# Altium schematic symbol library Schlib1.SchLib: 3 symbols
Pins are listed as number, name and electrical type; pins without a type are passive.

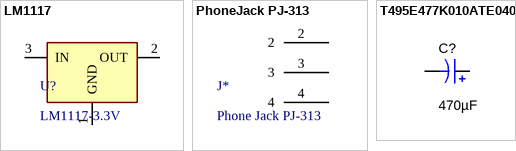
[diagram p0: symbols LM1117 to T495E477K010ATE040]

## LM1117
designator U?, comment LM1117-3.3V
800mA Low-Dropout Linear Regulator; Creator: Nguyen Ba Bien; Website: http://group3i.net
footprint LM1117-SOP
footprint SOT223-4N (SOT223, 4-Leads, Body 6.5x3.5mm, Pitch 2.3mm, Lead Span 7mm, IPC Medium Density)
pins: 1 GND, 2 OUT, 3 IN

## PhoneJack PJ-313
designator J*, comment Phone Jack PJ-313
pins: 2, 3, 4

## T495E477K010ATE040
designator C?  ValueDisplayed: 470µF  (hidden comment: T495E477K010ATE040)
CAP, TANT, 470uF, 10V, +/-10%, 0.04 ohm, 7260-38 SMD; Manufacturer: Kemet; Polarized: Y; CompType: Capacitor; U/M: EA; Cap_F: 0.00047; Tolerance_%: 10; ESR_Ohm: 0.04; IRMS_A: 2.012; TaMin_C: -55; TaMax_C: 125; Cap_Case: E; SymbolVersion: 2008-07-09; Value: 470uF; PartNumber: T495E477K010ATE040; PackageReference: 7260-38; RoHS: Y; Value1: 0.04 ohm; VDC_V: 10; Value2: 10V; MountType: SMT; Technology: TA; Series: T495; Published: 2008-06-19; Publisher: Texas Instruments; LatestRevisionDate: 2012-08-28; LatestRevisionNote: Changed Publisher; ComponentLink1Description: Datasheet link; ComponentLink1URL: http://www.kemet.com/kemet/web/homepage/kechome.nsf/file/T495%20Series/$file/F3102_T495.pdf; Alternate PartNumber: -; Alternate Manufacturer: -; Supplier 1: Digi-Key; Supplier Part Number 1: 399-5127-1-ND; Supplier 2: Arrow; Supplier Part Number 2: T495E477K010ATE040
signal-integrity model Cap
simulation model Cap
footprint 7260-38
pins: 1 +, 2 -